# Altium footprint library Transformer.PcbLib: 3 footprints
Each footprint in its own frame and in the unit in brackets; x right, y up, seen from the top. Pads: shape width x height; smd on the part's side, far side on the other; paste and mask are expansions set on the pad; w line width, h text height; cw(c..) or ccw(c..) is an arc to the next point about the centre after c.
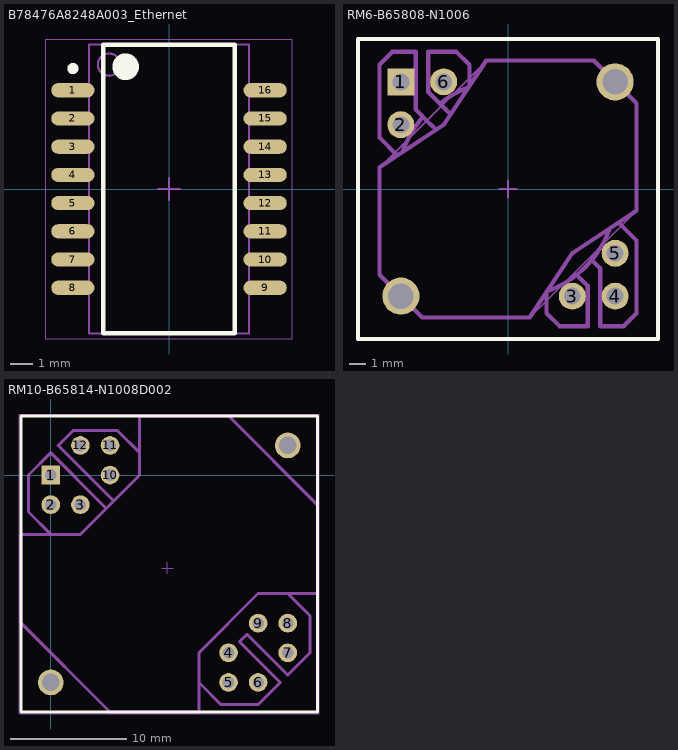
[diagram p0: the footprints below, top view; thin cyan lines are the x and y axes]

## B78476A8248A003_Ethernet [mm] "B78476A8248A003"
height 5.85
pads (16):
  oval 1.95x0.64 smd: 1(-4.325,4.445) 2(-4.325,3.175) 3(-4.325,1.905) 4(-4.325,0.635) 5(-4.325,-0.635) 6(-4.325,-1.905) 7(-4.325,-3.175) 8(-4.325,-4.445) 9(4.325,-4.445) 10(4.325,-3.175) 11(4.325,-1.905) 12(4.325,-0.635) 13(4.325,0.635) 14(4.325,1.905) 15(4.325,3.175) 16(4.325,4.445)
Top Overlay:
  circle w0.6: c-1.95,5.5 r0.3
  circle w0.25: c-4.325,5.42 r0.125
  lines w0.2: -2.95,-6.5 2.95,-6.5 2.95,6.5 -2.95,6.5 -2.95,-6.5
Mechanical 13:
  circle w0.1: c-2.7,5.6 r0.5
  lines w0.1: -3.6,-6.5 3.6,-6.5 3.6,6.5 -3.6,6.5 -3.6,-6.5
Mechanical 15:
  lines w0.05: -5.55,-6.75 5.55,-6.75 5.55,6.75 -5.55,6.75 -5.55,-6.75
  lines w0.1: -0.5,0 0.5,0 ; 0,-0.5 0,0.5
3D body: height 5.85, standoff 0.25, extent -3.6,-6.5 3.6,6.5

## RM6-B65808-N1006 [mm]
pads (8):
  rect 1.6x1.6 hole 1: 1(-6.35,6.35)
  round 1.6 hole 1: 2(-6.35,3.81) 3(3.81,-6.35) 4(6.35,-6.35) 5(6.35,-3.81) 6(-3.81,6.35)
  round 2.2 hole 1.5: ""(-6.35,-6.35) ""(6.35,6.35)
Top Overlay:
  lines w0.254: -8.89,-8.89 8.89,-8.89 8.89,8.89 -8.89,8.89 -8.89,-8.89
Top Assy:
  lines w0.254: -6.562,1.99 -7.62,3.048 -7.62,7.366 -6.858,8.128 -5.461,8.128 -5.461,7.239 -5.461,5.461 -5.461,4.699 -4.615,3.853 -4.615,3.844 ; -6.244,2.209 cw(c0,0) -5.05,4.286 ; -4.536,3.782 -4.272,3.517 ; -4.039,5.049 cw(c0,0) -2.387,6.009 ; -3.717,4.765 -3.749,4.765 -4.724,5.74 -4.724,6.96 -4.724,8.128 -3.048,8.128 -2.286,7.366 -2.286,6.223 ; -3.653,4.688 -3.653,4.669 -3.471,4.487 ; 2.279,-6.076 ccw(c0.268,-0.317) 5.967,-2.491 ; 2.286,-6.223 2.286,-7.366 3.048,-8.128 4.724,-8.128 4.724,-6.96 4.724,-5.74 4.064,-5.08 ; 4.953,-4.191 5.461,-4.699 5.461,-8.128 6.858,-8.128 7.62,-7.366 7.62,-3.048 6.557,-1.985 ; -7.62,-5.08 -7.62,1.27 -3.81,3.81 -1.27,7.62 5.08,7.62 6.35,6.35 7.62,5.08 7.62,-1.27 3.81,-3.81 1.27,-7.62 -5.08,-7.62 -6.35,-6.35 -7.62,-5.08
Mechanical 13:
  lines w0.1: -7.6,-5.025 -5.025,-7.6 1.3,-7.6 7.625,-1.275 7.625,5.075 5.075,7.625 -1.225,7.625 -7.6,1.25 -7.6,-5.025
Mechanical 15:
  lines w0.05: -8.89,-8.89 -8.89,8.875 8.825,8.875 8.825,-8.89 -8.89,-8.89
  lines w0.1: -0.5,0 0.5,0 ; 0,-0.5 0,0.5
3D body: height 14, standoff 0, extent -7.65,-7.65 7.625,7.625

## RM10-B65814-N1008D002 [mm]
pads (14):
  rect 1.6x1.6 hole 1: 1(0,0)
  round 1.6 hole 1: 2(0,-2.54) 3(2.54,-2.54) 4(15.24,-15.24) 5(15.24,-17.78) 6(17.78,-17.78) 7(20.32,-15.24) 8(20.32,-12.7) 9(17.78,-12.7) 10(5.08,0) 11(5.08,2.54) 12(2.54,2.54)
  round 2.2 hole 1.5: ""(0,-17.78) ""(20.32,2.54)
Top Overlay:
  lines w0.254: -2.54,-20.32 22.86,-20.32 22.86,5.08 -2.54,5.08 -2.54,-20.32
Top Assy:
  lines w0.254: 0,-5.08 -1.905,-3.175 -1.905,0 0,1.905 4.445,-2.54 4.763,-2.857 5.397,-2.222 0.635,2.54 1.905,3.81 5.715,3.81 7.62,1.905 ; 12.7,-17.78 14.605,-19.685 17.78,-19.685 19.685,-17.78 16.192,-14.287 16.828,-13.652 20.32,-17.145 22.225,-15.24 22.225,-12.065 20.32,-10.16 ; -2.54,-12.7 0,-15.24 2.54,-17.78 5.08,-20.32 12.7,-20.32 12.7,-15.24 17.78,-10.16 22.86,-10.16 22.86,-2.54 15.24,5.08 7.62,5.08 7.62,0 2.54,-5.08 -2.54,-5.08 -2.54,-12.7
Mechanical 13:
  lines w0.1: -2.6,-12.55 5.2,-20.35 12.688,-20.35 12.688,-15.238 17.775,-10.15 22.9,-10.15 22.925,-10.125 22.925,-2.625 15.2,5.1 7.65,5.1 7.65,0.05 2.5,-5.1 -2.6,-5.1 -2.6,-12.55
Mechanical 15:
  lines w0.05: -2.725,-20.475 -2.725,5.225 23,5.225 23,-20.475 -2.725,-20.475
  lines w0.1: 9.5,-7.975 10.5,-7.975 ; 10,-8.475 10,-7.475
3D body: height 16.5, standoff 0, extent -2.6,-20.35 22.925,5.1